# Altium schematic symbol library Attenuator.SchLib: 2 symbols
Pins are listed as number, name and electrical type; pins without a type are passive.

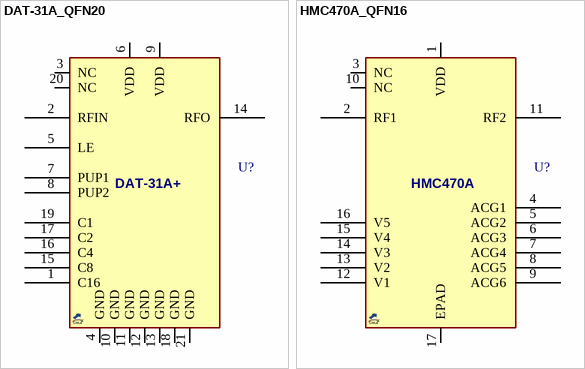
[diagram p0: symbols DAT-31A_QFN20 to HMC470A_QFN16]

## DAT-31A_QFN20
designator U?, comment DAT-31A  (value not drawn)
Att, LNA, 0~31dB, 1dB step, 0~4GHz, 50Ω; MANF_P#: DAT-31A-PP+; MANF: MINICIRCUITS; PARAM2: 3Vcc; PARAM: 0~31dB, 1dB step, 0~4GHz, 50Ω, -40~85°C; PRICE: 1.5$; VALUE: DAT-31A
footprint QFN50_20T (QFN, 20, 4X4mm, 0.5mm)
pins: 1 C16, 2 RFIN, 3 NC, 4 GND, 5 LE, 6 VDD, 7 PUP1, 8 PUP2, 9 VDD, 10 GND, 11 GND, 12 GND, 13 GND, 14 RFO, 15 C8, 16 C4, 17 C2, 18 GND, 19 C1, 20 NC, 21 GND
text: DAT-31A+

## HMC470A_QFN16
designator U?, comment HMC470A  (value not drawn)
Att, LNA, 1~31dB, 0.3dB step, 0.1~3GHz, 50Ω; MANF_P#: HMC470ALP3E; MANF: Analog Devices; PARAM2: 3~5Vcc; PARAM: 1~31dB, 0.3dB step, 0.1~3GHz, 50Ω, -40~85°C; PRICE: 10.5$; VALUE: HMC470A
footprint QFN50_16T_3X3 (RGT PVQFN (TI), 16-lead, pitch: 0.5mm, 3x3mm)
pins: 1 VDD, 2 RF1, 3 NC, 4 ACG1, 5 ACG2, 6 ACG3, 7 ACG4, 8 ACG5, 9 ACG6, 10 NC, 11 RF2, 12 V1, 13 V2, 14 V3, 15 V4, 16 V5, 17 EPAD